# EAGLE library part FLIPFLOP (library TestFlipflopModule)
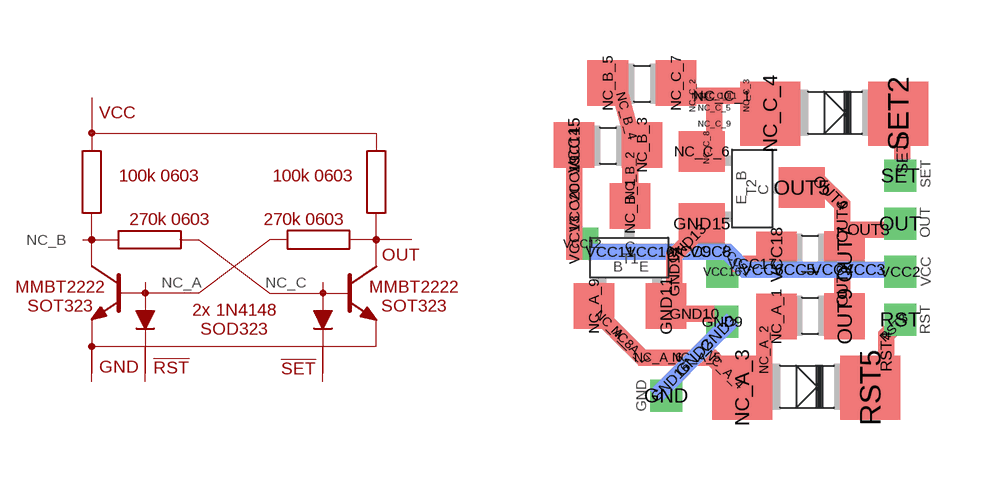
[diagram p0: symbol with the pads of FLIPFLOP; footprint FLIPFLOP]

Designator prefix -

## FLIPFLOPONE_LAYER  [FLIPFLOP]
GND  GND
GND2  GND
GND3  GND
GND9  GND
GND10  GND
GND11  GND
GND12  GND
GND13  GND
GND15  GND
GND16  GND
NC_A_1  NC_A
NC_A_2  NC_A
NC_A_3  NC_A
NC_A_4  NC_A
NC_A_5  NC_A
NC_A_6  NC_A
NC_A_7  NC_A
NC_A_8  NC_A
NC_A_9  NC_A
NC_B_1  NC_B
NC_B_2  NC_B
NC_B_3  NC_B
NC_B_4  NC_B
NC_B_5  NC_B
NC_C_1  NC_C
NC_C_2  NC_C
NC_C_3  NC_C
NC_C_4  NC_C
NC_C_5  NC_C
NC_C_6  NC_C
NC_C_7  NC_C
NC_C_8  NC_C
NC_C_9  NC_C
NC_C_10  NC_C
NC_C_11  NC_C
OUT  OUT
OUT3  OUT
OUT4  OUT
OUT5  OUT
OUT6  OUT
OUT7  OUT
OUT8  OUT
OUT9  OUT
RST  RST
RST3  RST
RST4  RST
RST5  RST
SET  SET
SET1  SET
SET2  SET
VCC2  VCC
VCC3  VCC
VCC4  VCC
VCC5  VCC
VCC6  VCC
VCC8  VCC
VCC9  VCC
VCC10  VCC
VCC11  VCC
VCC12  VCC
VCC13  VCC
VCC14  VCC
VCC15  VCC
VCC16  VCC
VCC17  VCC
VCC18  VCC
VCC19  VCC
VCC20  VCC
VCC21  VCC

## Footprint FLIPFLOP (pad centres in mm)
drill 0.3 square: GND 2.85,0.85; GND9 4.25,2.7; OUT 8.7,5.15; RST 8.7,2.75; SET 8.7,6.35; VCC2 8.7,3.95; VCC12 0.75,4.65; VCC16 4.25,3.95
smd 0.4 x 1 rotated 315 bottom: GND2 3.55,1.8; GND3 4.15,2.4; GND16 2.95,1.2
smd 1 x 0.4: GND10 3.55,2.9; NC_A_5 3.6,1.8; NC_A_6 2.65,1.8; OUT3 7.9,5; VCC17 5,4.15
smd 1.016 x 1.143: GND11 2.845,3.09; NC_A_1 5.605,2.83; NC_A_9 1.045,3.09; NC_B_1 1.945,5.59; NC_B_3 2.245,7.12; NC_B_5 1.39,8.665; NC_C_7 3.095,8.67; OUT7 7.31,4.385; OUT9 7.31,2.835; VCC15 0.54,7.115; VCC18 5.605,4.38
smd 0.4 x 1: GND12 3.05,3.95; NC_A_2 5.3,2; NC_B_2 1.95,6.35; OUT6 7.25,5.2; OUT8 7.25,3.6; RST4 8.35,1.95; SET1 8.75,6.91; VCC13 0.55,4.75; VCC14 0.55,6.95; VCC19 0.55,6.25; VCC20 0.55,5.55
smd 0.4 x 1 rotated 135: GND13 3.35,4.65
smd 1.143 x 1.016: GND15 3.74,5.155; NC_C_6 3.74,6.955; OUT5 6.24,6.055
smd 1.5 x 1.6: NC_A_3 4.75,1.05; NC_C_4 5.45,7.9; RST5 7.95,1.05; SET2 8.65,7.9
smd 0.4 x 1 rotated 45: NC_A_4 4.3,1.5; NC_A_7 1.95,2.1; NC_A_8 1.55,2.5; OUT4 6.95,5.92
smd 0.4 x 1 rotated 15: NC_B_4 1.85,7.85
smd 1.2 x 0.4: NC_C_1 4.25,8.35
smd 0.4 x 0.4: NC_C_2 3.5,8.35; NC_C_3 4.85,8.35; NC_C_5 4.05,8.05; NC_C_8 3.85,7.05; NC_C_9 4.05,7.65; NC_C_10 3.95,8.35; NC_C_11 4.15,8.35
smd 0.4 x 0.7 rotated 135: RST3 8.54,2.55
smd 1 x 0.4 bottom: VCC3 7.8,4; VCC4 7,4; VCC5 6.05,4; VCC6 5.25,4; VCC8 3.95,4.45; VCC9 3.45,4.45; VCC10 2.45,4.45; VCC11 1.45,4.45
smd 0.4 x 0.8 rotated 45 bottom: VCC21 4.6,4.22